# EAGLE library part N900-HEADSET (library GTA04b7)
RX51 Headset Jack
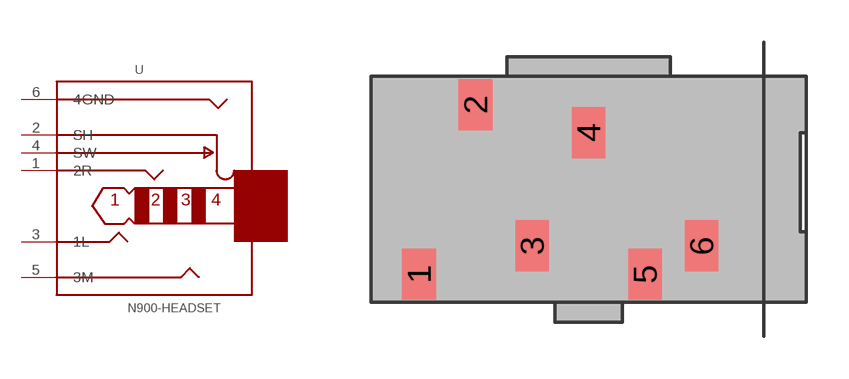
[diagram p31: symbol with the pads of N900-HEADSET; footprint N900-HEADSET]

Designator prefix -

## N900-HEADSET  [N900-HEADSET]
1  2R  pas
2  SH  pas
3  1L  pas
4  SW  pas
5  3M  pas
6  4GND  pas

## Footprint N900-HEADSET (pad centres in mm)
Headset socket with spring conctacts used in the Nokia N900
smd 1.2 x 1.8: 1 -6,-3; 2 -4,3; 3 -2,-2; 4 0,2; 5 2,-3; 6 4,-2